# Altium schematic symbol library DF13-4P-1.25DS_25_.SchLib: 1 symbol
Pins are listed as number, name and electrical type; pins without a type are passive.

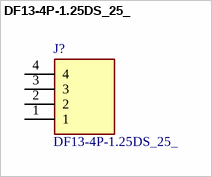
[diagram p0: symbol DF13-4P-1.25DS_25_]

## DF13-4P-1.25DS_25_
designator J?
Headers & Wire Housings 4P, 1.25mm Pitch, Single Row Pin Header, Right Angle through Hole; Manufacturer_Name: Hirose; Manufacturer_Part_Number: DF13-4P-1.25DS(25); Geometry.Height: 3.75mm; Mouser Part Number: 798-DF134P125DS25; Mouser Price/Stock: https://www.mouser.co.uk/ProductDetail/Hirose-Connector/DF13-4P-1.25DS25?qs=Li%252BoUPsLEnumVhFK2%252BJTuQ%3D%3D; Datasheet Link: https://www.hirose.com/en/product/document?clcode=CL0536-0153-2-25&productname=DF13-4P-1.25DS(25)&series=DF13&documenttype=2DDrawing&lang=en&documentid=0001495816
footprint DF134P125DS25
pins: 1, 2, 3, 4